# Altium footprint library LED_Indicator_Pcb.PcbLib: 1 footprints
Each footprint in its own frame and in the unit in brackets; x right, y up, seen from the top. Pads: shape width x height; smd on the part's side, far side on the other; paste and mask are expansions set on the pad; w line width, h text height; cw(c..) or ccw(c..) is an arc to the next point about the centre after c.
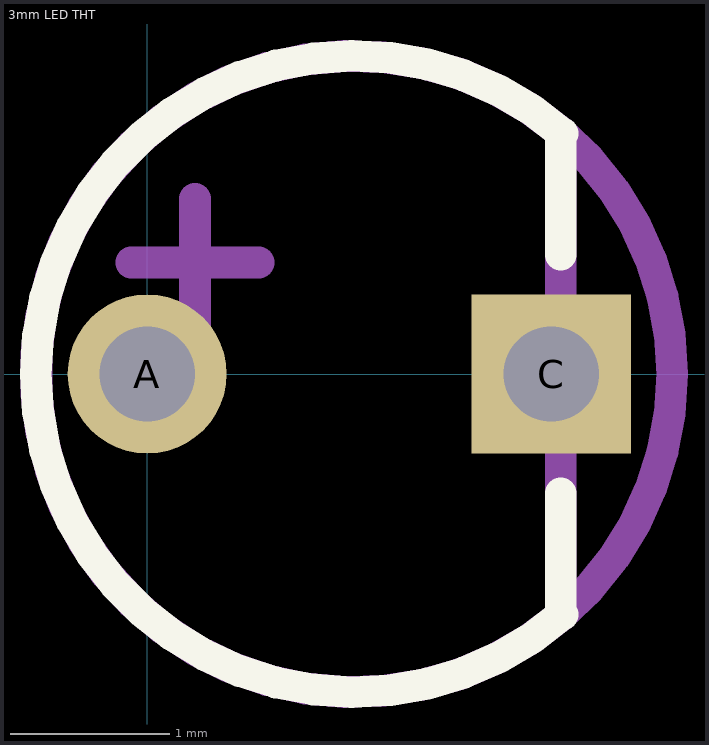
[diagram p0: the footprint, top view; thin cyan lines are the x and y axes]

## 3mm LED THT [mm]
pads (2):
  round 1 hole 0.6 paste+0 mask+0.1: A(0,0)
  rect 1x1 hole 0.6 paste+0 mask+0.1: C(2.54,0)
Top Overlay:
  lines w0.2: 2.6,-1.5 2.6,-0.75 ; 2.6,0.75 2.6,1.5 ; 2.61,-1.511 cw(c1.3,0) 2.61,1.511
Mechanical 13:
  circle w0.2: c1.3,0 r2
  lines w0.2: -0.1,0.7 0.7,0.7 ; 0.3,0.3 0.3,1.1 ; 2.6,-1.5 2.6,1.5
  text "'.designator'" at -0.1,-0.912 h1
Mechanical 15:
  circle w0.2: c1.3,0 r2